# EAGLE library part PRESSURE_SENSOR_ABPDRNN100PGAA5 (library byu_pressure_control)
Honeywell Pressure Sensor (ABPDRNN100PGAA5) Link <https://www.mouser.com/ProductDetail/Honeywell/ABPDRNN100PGAA5?qs=sGAEpiMZZMvhQj7WZhFIAD2P7qVC0dZ7tI11ZYAVyGqQk%2FMhVJdgGw%3D%3D>
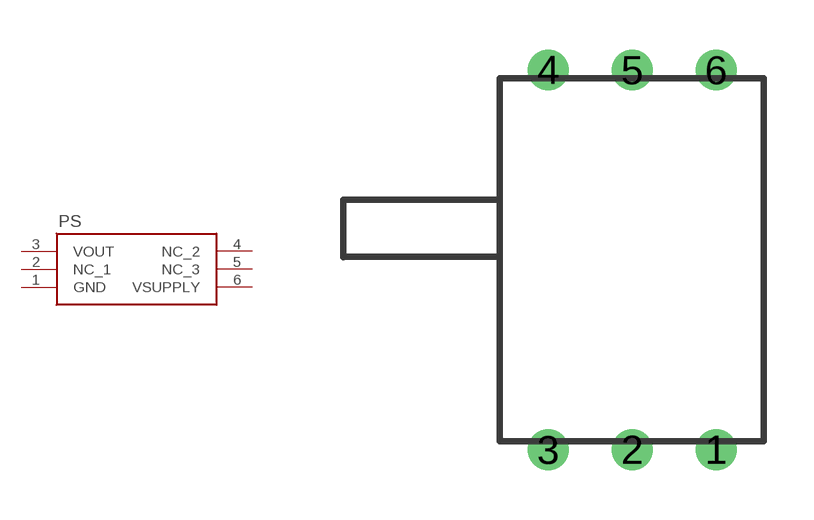
[diagram p0: symbol with the pads of PRESSURE_SENSOR_ABPDRNN100PGAA5; footprint PRESSURE_SENSOR_ABPDRNN100PGAA5]

Designator prefix PS

## PRESSURE_SENSOR_ABPDRNN100PGAA5 (DESCRIPTION: Board Mount Pressure Sensors BASIC PRESSURE SENSOR; HEIGHT: 7.61mm; MANUFACTURER_NAME: Honeywell; MANUFACTURER_PART_NUMBER: ABPDRNN100PGAA5; MOUSER_PART_NUMBER: 785-ABPDRNN100PGAA5; MOUSER_PRICE-STOCK: https://www.mouser.co.uk/ProductDetail/Honeywell/ABPDRNN100PGAA5?qs=YCa%2FAAYMW03EAlFoRyu6VA%3D%3D)  [PRESSURE_SENSOR_ABPDRNN100PGAA5]
1  GND
2  NC_1
3  VOUT
4  NC_2
5  NC_3
6  VSUPPLY

## Footprint PRESSURE_SENSOR_ABPDRNN100PGAA5 (pad centres in mm)
Honeywell Pressure Sensor Dimensions <https://www.mouser.com/datasheet/2/187/honeywell_sensing_basic_board_mount_pressure_abp_s-1662208.pdf>
drill 0.73: 1 6.55,-0.25; 2 4.01,-0.25; 3 1.47,-0.25; 4 1.47,11.25; 5 4.01,11.25; 6 6.55,11.25